# Altium schematic symbol library IMU.SchLib: 5 symbols
Pins are listed as number, name and electrical type; pins without a type are passive.

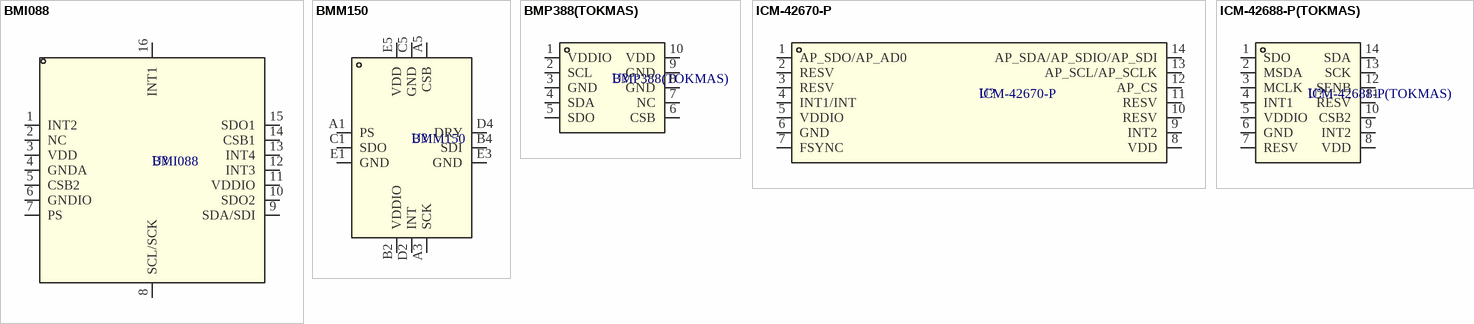
[diagram p0: symbols BMI088 to ICM-42688-P(TOKMAS)]

## BMI088
designator U?
传感器类型:IMU(加速度计+陀螺仪);接口类型:I2C；SPI;; Manufacturer: Bosch(博世); SEEX_AUTHOR: ref42; SEEX_COMPONENT_ID: C194919; Acceleration Measurement Range (MAX): ?4g; Accelerometer Sensing Axis: X,Y,Z; Gyroscope Measurement Range (MAX): ?000dps; Output Bits: 16bit; Voltage - Supply: 2.4V~3.6V; SEEX_PROJECT_URL: https://github.com/ref42/seex; Footprint: LGA-16_L4.5-W3.0-P0.50-BL; Datasheet: https://item.szlcsc.com/datasheet/BMI088/239391.html; Features: 运动事件检测；同步与时间戳; Gyroscope Sensing Axis: X,Y,Z; Interface: I2C；SPI; JLCPCB Part Class: Extended Part; LCSC Part Name: BMI088; Manufacturer Part: BMI088; Operating Temperature: -40℃~+85℃; Sensor Type: IMU(加速度计+陀螺仪); Supplier: LCSC; Supplier Footprint: LGA-16(3x4.5); Supplier Part: C194919
footprint LGA-16_L4.5-W3.0-P0.50-BL (LGA-16(3x4.5); LGA-16)
pins: 1 INT2, 2 NC, 3 VDD, 4 GNDA, 5 CSB2, 6 GNDIO, 7 PS, 8 SCL/SCK, 9 SDA/SDI, 10 SDO2, 11 VDDIO, 12 INT3, 13 INT4, 14 CSB1, 15 SDO1, 16 INT1

## BMM150
designator U?
磁传感器 3轴磁罗盘; Manufacturer: Bosch(博世); SEEX_AUTHOR: ref42; SEEX_COMPONENT_ID: C171681; Interface Type: SPI；I2C; Magnetic Sensing Range(X,Y): ?.3mT; Magnetic Sensing Range(Z): ?.5mT; Voltage - Supply: 1.62V~3.6V; SEEX_PROJECT_URL: https://github.com/ref42/seex; Footprint: WLCSP-12_L1.6-W1.6_BMM150; Datasheet: https://item.szlcsc.com/datasheet/BMM150/183067.html; Features: 多功能INT引脚；内置自检(BIST); JLCPCB Part Class: Extended Part; LCSC Part Name: 三轴地磁式传感器; Manufacturer Part: BMM150; Operating Temperature: -40℃~+85℃; Supplier: LCSC; Supplier Footprint: WLCSP-12(1.6x1.6); Supplier Part: C171681
footprint WLCSP-12_L1.6-W1.6_BMM150 (WLCSP-12)
pins: A1 PS, A3 SCK, A5 CSB, B2 VDDIO, B4 SDI, C1 SDO, C5 GND, D2 INT, D4 DRY, E1 GND, E3 GND, E5 VDD

## BMP388(TOKMAS)
designator U?
接口类型:I2C；SPI;; Manufacturer: Tokmas(托克马斯); SEEX_AUTHOR: ref42; SEEX_COMPONENT_ID: C54582187; Absolute Accuracy: 0.5hpa; Relative Accuracy: 0.03hpa; Standby Current: 500nA; Temperature Coefficient of Offset(TCO): 0.5pa/K; Voltage - Supply: 1.7V~3.6V; SEEX_PROJECT_URL: https://github.com/ref42/seex; Footprint: LGA-10_L2.0-W2.0-P0.50-BL; Datasheet: https://item.szlcsc.com/datasheet/BMP388(TOKMAS)/57968579.html; Features: 待机模式；片内温度输出；集成ADC与数字接口; Interface: I2C；SPI; JLCPCB Part Class: Extended Part; LCSC Part Name: 数字气压传感器，高精度、低功耗，支持I2C和SPI接口，带FIFO; Manufacturer Part: BMP388(TOKMAS); Operating Temperature: -40℃~+85℃; Supplier: LCSC; Supplier Footprint: LGA-10(2x2); Supplier Part: C54582187
footprint LGA-10_L2.0-W2.0-P0.50-BL (LGA-10_L2.0-W2.0; LGA-10; LGA 2.0?.0?.75; SMD-10P; LGA-10L; LGA-10_L2.0-W2.0-P0.50-BL)
pins: 1 VDDIO, 2 SCL, 3 GND, 4 SDA, 5 SDO, 6 CSB, 7 NC, 8 GND, 9 GND, 10 VDD

## ICM-42670-P
designator U?
传感器类型:IMU(加速度计+陀螺仪);接口类型:I3C；I2C；SPI;; Manufacturer: TDK InvenSense(应美盛); SEEX_AUTHOR: ref42; SEEX_COMPONENT_ID: C3288646; Acceleration Measurement Range (MAX): ?6g; Accelerometer Sensing Axis: X,Y,Z; Cache Size: 2.25KB; Gyroscope Measurement Range (MAX): ?000dps; Output Bits: 16bit; Standby Current: 3.5uA; Voltage - Supply: 1.71V~3.6V; SEEX_PROJECT_URL: https://github.com/ref42/seex; Footprint: LGA-14_L3.0-W2.5-P0.50-TL_QMI8658A; Datasheet: https://item.szlcsc.com/datasheet/ICM-42670-P/3851547.html; Features: 运动事件检测; Gyroscope Sensing Axis: X,Y,Z; Interface: I3C；I2C；SPI; JLCPCB Part Class: Extended Part; LCSC Part Name: 高性能6轴MEMS运动跟踪设备; Manufacturer Part: ICM-42670-P; Operating Temperature: -40℃~+85℃; Sensor Type: IMU(加速度计+陀螺仪); Supplier: LCSC; Supplier Footprint: LGA-14(2.5x3); Supplier Part: C3288646
footprint LGA-14_L3.0-W2.5-P0.50-TL_QMI8658A (SMD-14P; LGA-14pin; LGA-14; LGA-14(2.5x3); LGA14-3*2.5-0.5; LGA-14L; VFLGA-14L(2.5x3); 2.5x3x0.91mm(14-pinLGA))
pins: 1 AP_SDO/AP_AD0, 2 RESV, 3 RESV, 4 INT1/INT, 5 VDDIO, 6 GND, 7 FSYNC, 8 VDD, 9 INT2, 10 RESV, 11 RESV, 12 AP_CS, 13 AP_SCL/AP_SCLK, 14 AP_SDA/AP_SDIO/AP_SDI

## ICM-42688-P(TOKMAS)
designator U?
传感器类型:IMU(加速度计+陀螺仪);接口类型:SPI；I2C;; Manufacturer: Tokmas(托克马斯); SEEX_AUTHOR: ref42; SEEX_COMPONENT_ID: C54308212; Acceleration Measurement Range (MAX): ?6g; Accelerometer Sensing Axis: X,Y,Z; Cache Size: 2KB; Gyroscope Measurement Range (MAX): ?000dps; Output Bits: 16bit; Standby Current: 12uA; Voltage - Supply: 1.71V~3.6V; SEEX_PROJECT_URL: https://github.com/ref42/seex; Footprint: LGA-14_L3.0-W2.5-P0.50-BL; Datasheet: https://item.szlcsc.com/datasheet/ICM-42688-P(TOKMAS)/57590981.html; Gyroscope Sensing Axis: X,Y,Z; Interface: SPI；I2C; JLCPCB Part Class: Extended Part; LCSC Part Name: 低功耗高度集成6轴惯性测量单元，集成加速度计和陀螺仪，具有片上运动触发中断和FIFO，可配置辅助数字接口; Manufacturer Part: ICM-42688-P(TOKMAS); Operating Temperature: -40℃~+85℃; Sensor Type: IMU(加速度计+陀螺仪); Supplier: LCSC; Supplier Footprint: LGA-14(2.5x3); Supplier Part: C54308212
footprint LGA-14_L3.0-W2.5-P0.50-BL (LGA-14(2.5x3); LGA-14; LGA-14(2.5x3x0.5mm); LGA-14_L3.0-W2.5-P0.50; BMI160/BMI120; LGA14; LGA-14_2.5X3.0)
pins: 1 SDO, 2 MSDA, 3 MCLK, 4 INT1, 5 VDDIO, 6 GND, 7 RESV, 8 VDD, 9 INT2, 10 CSB2, 11 RESV, 12 SENB, 13 SCK, 14 SDA